# Altium schematic symbol library 2020-02-12_00-01-13.SchLib: 2 symbols
Pins are listed as number, name and electrical type; pins without a type are passive.

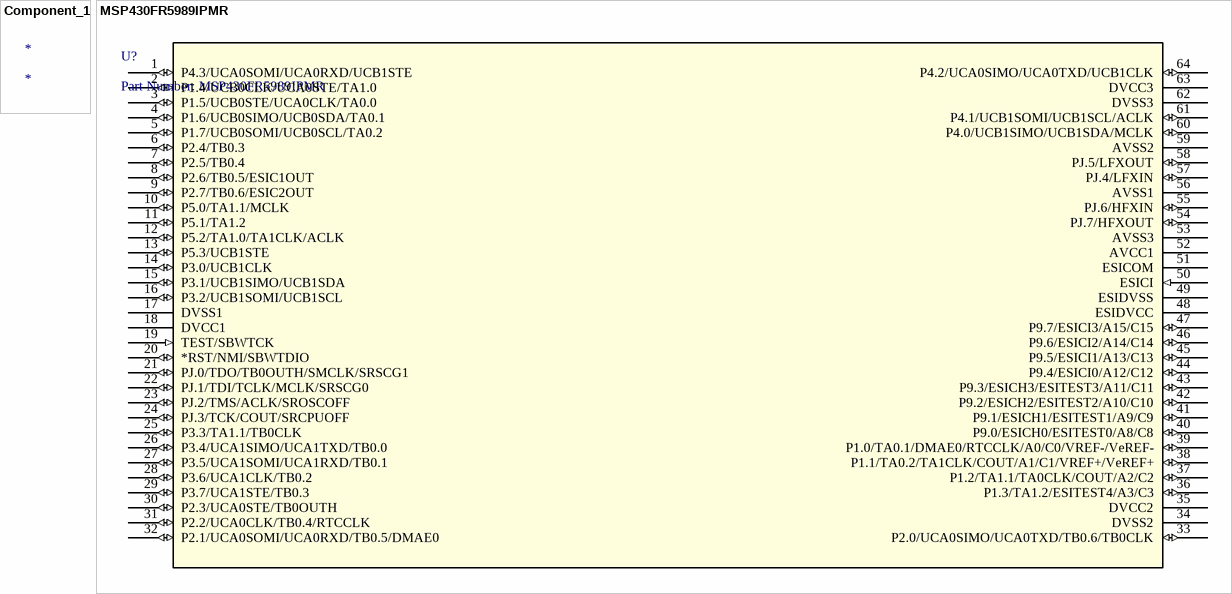
[diagram p0: symbols Component_1 to MSP430FR5989IPMR]

## Component_1
designator *

## MSP430FR5989IPMR
designator U?, comment Part Number: MSP430FR5989IPMR
No Description Available; Vendor: Texas Instruments; Built_By: EMA_UL_Team; Manufacturer_Part_Number: MSP430FR5989IPMR; Copyright: Copyright (C) 2018 Accelerated Designs. All rights reserved; RefDes: RefDes; Type: DEV; Value: Value
footprint PM64
pins: 1 P4.3/UCA0SOMI/UCA0RXD/UCB1STE (io), 2 P1.4/UCB0CLK/UCA0STE/TA1.0 (io), 3 P1.5/UCB0STE/UCA0CLK/TA0.0 (io), 4 P1.6/UCB0SIMO/UCB0SDA/TA0.1 (io), 5 P1.7/UCB0SOMI/UCB0SCL/TA0.2 (io), 6 P2.4/TB0.3 (io), 7 P2.5/TB0.4 (io), 8 P2.6/TB0.5/ESIC1OUT (io), 9 P2.7/TB0.6/ESIC2OUT (io), 10 P5.0/TA1.1/MCLK (io), 11 P5.1/TA1.2 (io), 12 P5.2/TA1.0/TA1CLK/ACLK (io), 13 P5.3/UCB1STE (io), 14 P3.0/UCB1CLK (io), 15 P3.1/UCB1SIMO/UCB1SDA (io), 16 P3.2/UCB1SOMI/UCB1SCL (io), 17 DVSS1 (power), 18 DVCC1 (power), 19 TEST/SBWTCK (in), 20 *RST/NMI/SBWTDIO (io), 21 PJ.0/TDO/TB0OUTH/SMCLK/SRSCG1 (io), 22 PJ.1/TDI/TCLK/MCLK/SRSCG0 (io), 23 PJ.2/TMS/ACLK/SROSCOFF (io), 24 PJ.3/TCK/COUT/SRCPUOFF (io), 25 P3.3/TA1.1/TB0CLK (io), 26 P3.4/UCA1SIMO/UCA1TXD/TB0.0 (io), 27 P3.5/UCA1SOMI/UCA1RXD/TB0.1 (io), 28 P3.6/UCA1CLK/TB0.2 (io), 29 P3.7/UCA1STE/TB0.3 (io), 30 P2.3/UCA0STE/TB0OUTH (io), 31 P2.2/UCA0CLK/TB0.4/RTCCLK (io), 32 P2.1/UCA0SOMI/UCA0RXD/TB0.5/DMAE0 (io), 33 P2.0/UCA0SIMO/UCA0TXD/TB0.6/TB0CLK (io), 34 DVSS2 (power), 35 DVCC2 (power), 36 P1.3/TA1.2/ESITEST4/A3/C3 (io), 37 P1.2/TA1.1/TA0CLK/COUT/A2/C2 (io), 38 P1.1/TA0.2/TA1CLK/COUT/A1/C1/VREF+/VeREF+ (io), 39 P1.0/TA0.1/DMAE0/RTCCLK/A0/C0/VREF-/VeREF- (io), 40 P9.0/ESICH0/ESITEST0/A8/C8 (io), 41 P9.1/ESICH1/ESITEST1/A9/C9 (io), 42 P9.2/ESICH2/ESITEST2/A10/C10 (io), 43 P9.3/ESICH3/ESITEST3/A11/C11 (io), 44 P9.4/ESICI0/A12/C12 (io), 45 P9.5/ESICI1/A13/C13 (io), 46 P9.6/ESICI2/A14/C14 (io), 47 P9.7/ESICI3/A15/C15 (io), 48 ESIDVCC (power), 49 ESIDVSS (power), 50 ESICI (in), 51 ESICOM, 52 AVCC1 (power), 53 AVSS3 (power), 54 PJ.7/HFXOUT (io), 55 PJ.6/HFXIN (io), 56 AVSS1 (power), 57 PJ.4/LFXIN (io), 58 PJ.5/LFXOUT (io), 59 AVSS2 (power), 60 P4.0/UCB1SIMO/UCB1SDA/MCLK (io), 61 P4.1/UCB1SOMI/UCB1SCL/ACLK (io), 62 DVSS3 (power), 63 DVCC3 (power), 64 P4.2/UCA0SIMO/UCA0TXD/UCB1CLK (io)